# EAGLE library part XR-16C550J (library exar)
UART/FIFO
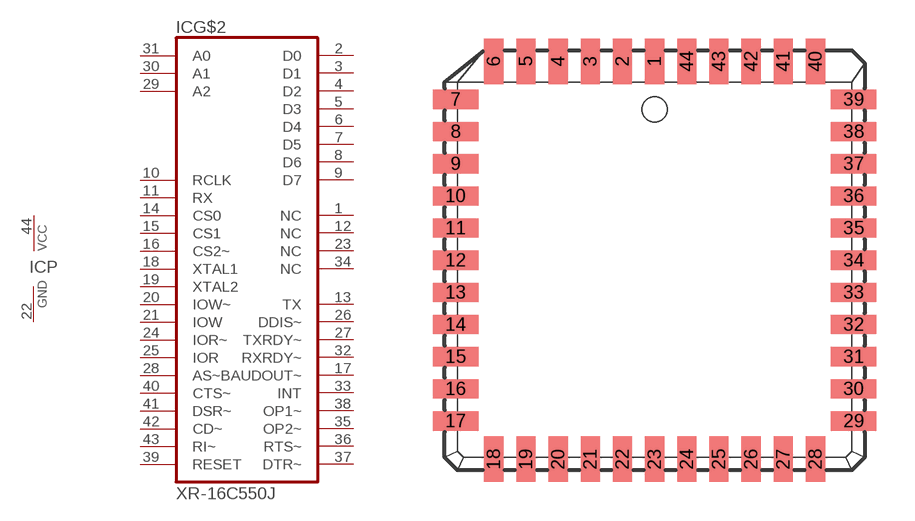
[diagram p74: symbol with the pads of PLCC44; footprint PLCC44]

Designator prefix IC; gates P=PWRN G$2=16C550J

## XR-16C550J  [PLCC44]
1  G$2:NC  nc
2  G$2:D0
3  G$2:D1
4  G$2:D2
5  G$2:D3
6  G$2:D4
7  G$2:D5
8  G$2:D6
9  G$2:D7
10  G$2:RCLK  in
11  G$2:RX  in
12  G$2:NC  nc
13  G$2:TX  out
14  G$2:CS0  in
15  G$2:CS1  in
16  G$2:CS2~  in
17  G$2:BAUDOUT~  out
18  G$2:XTAL1  in
19  G$2:XTAL2  in
20  G$2:IOW~  in
21  G$2:IOW  in
22  P:GND  pwr
23  G$2:NC  nc
24  G$2:IOR~  in
25  G$2:IOR  in
26  G$2:DDIS~  out
27  G$2:TXRDY~  out
28  G$2:AS~  in
29  G$2:A2  in
30  G$2:A1  in
31  G$2:A0  in
32  G$2:RXRDY~  out
33  G$2:INT  out
34  G$2:NC  nc
35  G$2:OP2~  out
36  G$2:RTS~  out
37  G$2:DTR~  out
38  G$2:OP1~  out
39  G$2:RESET  in
40  G$2:CTS~  in
41  G$2:DSR~  in
42  G$2:CD~  in
43  G$2:RI~  in
44  P:VCC  pwr

## Footprint PLCC44 (pad centres in mm)
Plastic Leaded Chip Carrier
smd 0.76 x 1.8: 1 0,7.86; 2 -1.27,7.86; 3 -2.54,7.86; 4 -3.81,7.86; 5 -5.08,7.86; 6 -6.35,7.86; 18 -6.35,-7.86; 19 -5.08,-7.86; 20 -3.81,-7.86; 21 -2.54,-7.86; 22 -1.27,-7.86; 23 0,-7.86; 24 1.27,-7.86; 25 2.54,-7.86; 26 3.81,-7.86; 27 5.08,-7.86; 28 6.35,-7.86; 40 6.35,7.86; 41 5.08,7.86; 42 3.81,7.86; 43 2.54,7.86; 44 1.27,7.86
smd 1.8 x 0.76: 7 -7.86,6.35; 8 -7.86,5.08; 9 -7.86,3.81; 10 -7.86,2.54; 11 -7.86,1.27; 12 -7.86,0; 13 -7.86,-1.27; 14 -7.86,-2.54; 15 -7.86,-3.81; 16 -7.86,-5.08; 17 -7.86,-6.35; 29 7.86,-6.35; 30 7.86,-5.08; 31 7.86,-3.81; 32 7.86,-2.54; 33 7.86,-1.27; 34 7.86,0; 35 7.86,1.27; 36 7.86,2.54; 37 7.86,3.81; 38 7.86,5.08; 39 7.86,6.35